# Altium footprint library tsot-23-6.PcbLib: 1 footprints
Each footprint in its own frame and in the unit in brackets; x right, y up, seen from the top. Pads: shape width x height; smd on the part's side, far side on the other; paste and mask are expansions set on the pad; w line width, h text height; cw(c..) or ccw(c..) is an arc to the next point about the centre after c.
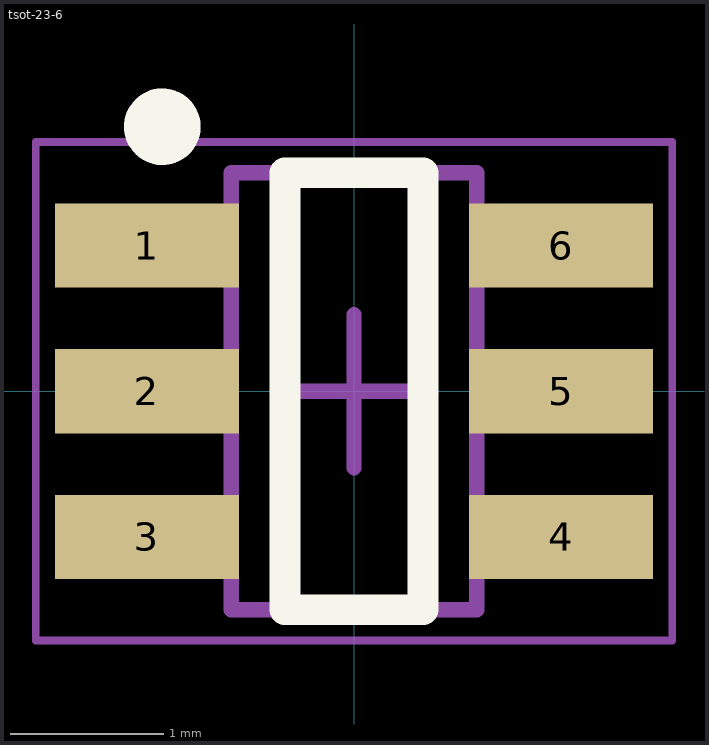
[diagram p0: the footprint, top view; thin cyan lines are the x and y axes]

## tsot-23-6 [mm] "TSOT-23, 6-Leads, Body 2.90x1.6mm, Pitch 0.95mm"
height 1.1
pads (6):
  rect 1.2x0.55 smd mask+0.075: 1(-1.35,0.95) 2(-1.35,0) 3(-1.35,-0.95) 4(1.35,-0.95) 5(1.35,0) 6(1.35,0.95)
Top Overlay:
  circle w0.25: c-1.25,1.725 r0.125
  lines w0.2: -0.45,-1.425 0.45,-1.425 0.45,1.425 -0.45,1.425 -0.45,-1.425
Mechanical 13:
  lines w0.1: -0.8,-1.425 -0.8,1.425 0.8,1.425 0.8,-1.425 -0.8,-1.425
Mechanical 15:
  lines w0.05: -2.075,-1.625 -2.075,1.625 2.075,1.625 2.075,-1.625 -2.075,-1.625
  lines w0.1: -0.5,0 0.5,0 ; 0,-0.5 0,0.5
3D body "TSOT-23-6.SLDPRT": height 0.98, standoff -0.02, extent -1.4,-1.425 1.4,1.425